# Altium schematic symbol library ICs Espressif Microcontrollers.SchLib: 2 symbols
Pins are listed as number, name and electrical type; pins without a type are passive.

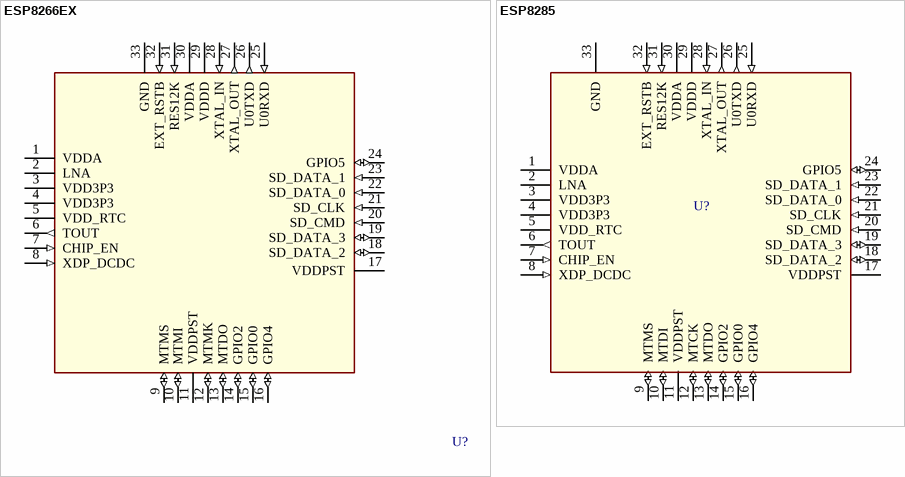
[diagram p0: symbols ESP8266EX to ESP8285]

## ESP8266EX
designator U?  (value not drawn)
IC RF TxRx + MCU WiFi 802.11b/g/n 2.4GHz 32-VFQFN Exposed Pad; Manufacturer 1: Espressif Systems; ComponentLink1Description: Datasheet; ComponentLink1URL: https://www.espressif.com/sites/default/files/documentation/0a-esp8266ex_datasheet_en.pdf; Mouser PN: 356-ESP8266EX; Manufacturer 1 PN: ESP8266EX; Digikey PN: 1904-1001-1-ND
footprint ESP8266EX (IC RF TxRx + MCU WiFi 802.11b/g/n 2.4GHz 32-VFQFN Exposed Pad)
pins: 1 VDDA (power), 2 LNA, 3 VDD3P3 (power), 4 VDD3P3 (power), 5 VDD_RTC (power), 6 TOUT (out), 7 CHIP_EN (in), 8 XDP_DCDC (in), 9 MTMS (io), 10 MTMI (io), 11 VDDPST (power), 12 MTMK (io), 13 MTDO (io), 14 GPIO2 (io), 15 GPIO0 (io), 16 GPIO4 (io), 17 VDDPST (power), 18 SD_DATA_2 (io), 19 SD_DATA_3 (io), 20 SD_CMD (in), 21 SD_CLK (in), 22 SD_DATA_0 (in), 23 SD_DATA_1 (in), 24 GPIO5 (io), 25 U0RXD (in), 26 U0TXD (out), 27 XTAL_OUT (out), 28 XTAL_IN (in), 29 VDDD (power), 30 VDDA (power), 31 RES12K (in), 32 EXT_RSTB (in), 33 GND (power)

## ESP8285
designator U?, comment IC RF TXRX+MCU WIFI 32VFQFN  (value not drawn)
IC RF TxRx + MCU WiFi 802.11b/g/n 2.4GHz 32-VFQFN Exposed Pad; Manufacturer 1: Espressif Systems; Manufacturer 1 PN: ESP8285; ComponentLink1Description: Datasheet; ComponentLink1URL: https://www.espressif.com/sites/default/files/documentation/0a-esp8285_datasheet_en.pdf; Digikey PN: 1904-1002-1-ND; Mouser PN: 356-ESP8285
footprint ESP8285 (IC RF TXRX+MCU WIFI 32VFQFN)
pins: 1 VDDA, 2 LNA, 3 VDD3P3, 4 VDD3P3, 5 VDD_RTC, 6 TOUT (out), 7 CHIP_EN (in), 8 XDP_DCDC (in), 9 MTMS (io), 10 MTDI (io), 11 VDDPST, 12 MTCK (io), 13 MTDO (io), 14 GPIO2 (io), 15 GPIO0 (io), 16 GPIO4 (io), 17 VDDPST, 18 SD_DATA_2 (io), 19 SD_DATA_3 (io), 20 SD_CMD (in), 21 SD_CLK (in), 22 SD_DATA_0 (in), 23 SD_DATA_1 (in), 24 GPIO5 (io), 25 U0RXD (in), 26 U0TXD (out), 27 XTAL_OUT (out), 28 XTAL_IN (in), 29 VDDD, 30 VDDA, 31 RES12K (in), 32 EXT_RSTB (in), 33 GND